# Altium footprint library SparkFun-Fuses.PCBLIB: 5 footprints
Each footprint in its own frame and in the unit in brackets; x right, y up, seen from the top. Pads: shape width x height; smd on the part's side, far side on the other; paste and mask are expansions set on the pad; w line width, h text height; cw(c..) or ccw(c..) is an arc to the next point about the centre after c.
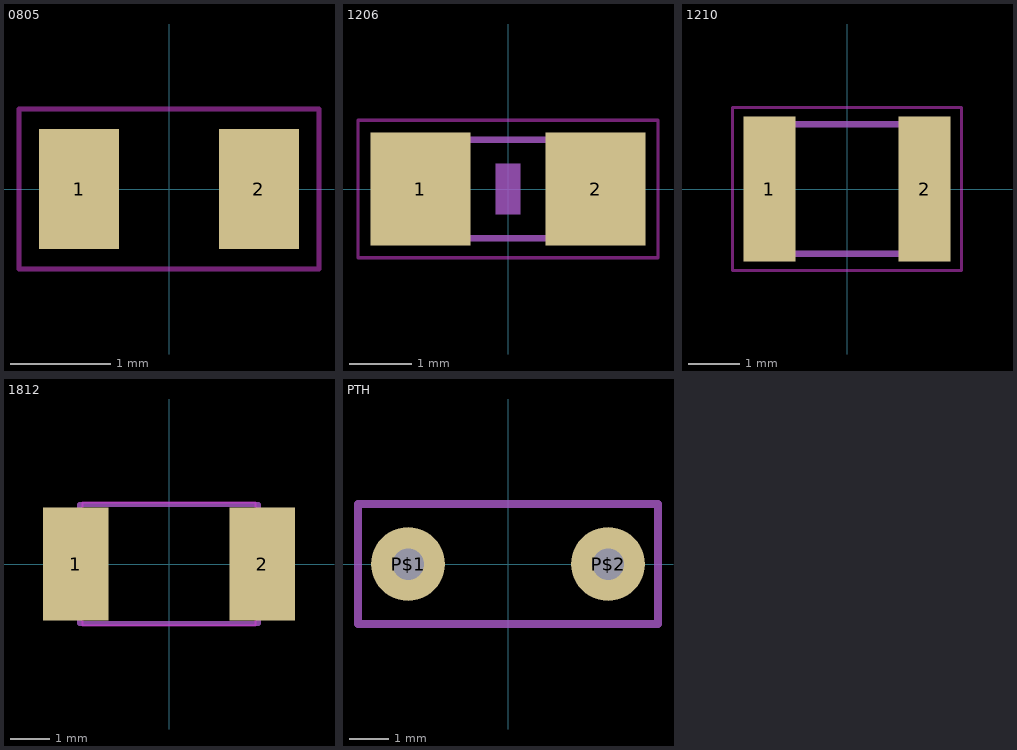
[diagram p0: the footprints below, top view; thin cyan lines are the x and y axes]

## 0805 [mil]
pads (2):
  rect 31.5x47.24 smd: 1(-35.43,0) 2(35.43,0)
Top keep-out:
  lines w2: -59.06,-31.5 59.06,-31.5 59.06,31.5 -59.06,31.5 -59.06,-31.5

## 1206 [mil]
pads (2):
  rect 62.99x70.87 smd: 1(-55.12,0) 2(55.12,0)
Top keep-out:
  lines w2: -94.49,-43.31 94.49,-43.31 94.49,43.31 -94.49,43.31 -94.49,-43.31
tDocu:
  region: -67,-33.5 -67,33.43 -37.47,33.43 -37.47,-33.5
  region: 37.47,-33.43 37.47,33.5 67,33.5 67,-33.43
  lines w4: -37.99,-30.98 37.99,-30.98 ; -37.99,30.98 37.99,30.98
tGlue:
  region: -7.87,-15.75 -7.87,15.75 7.87,15.75 7.87,-15.75

## 1210 [mm]
pads (2):
  rect 1x2.8 smd: 1(-1.5,0) 2(1.5,0)
Top keep-out:
  lines w0.051: -2.215,-1.575 2.215,-1.575 2.215,1.575 -2.215,1.575 -2.215,-1.575
tDocu:
  lines w0.127: -1.625,-1.25 1.625,-1.25 1.625,1.25 -1.625,1.25 -1.625,-1.25

## 1812 [mil]
pads (2):
  rect 66x114 smd: 1(-94,0) 2(94,0)
Top keep-out:
  lines w2: -87.2,-62.01 87.2,-62.01 87.2,62.01 -87.2,62.01 -87.2,-62.01
tDocu:
  lines w5: -90,-60 90,-60 90,60 -90,60 -90,-60

## PTH [mil]
pads (2):
  round 74 hole 31.5: P$1(-100,0) P$2(100,0)
tPlace:
  lines w8: -150,-60 150,-60 150,60 -150,60 -150,-60